# Altium footprint library HCPL-316J.PcbLib: 1 footprints
Each footprint in its own frame and in the unit in brackets; x right, y up, seen from the top. Pads: shape width x height; smd on the part's side, far side on the other; paste and mask are expansions set on the pad; w line width, h text height; cw(c..) or ccw(c..) is an arc to the next point about the centre after c.
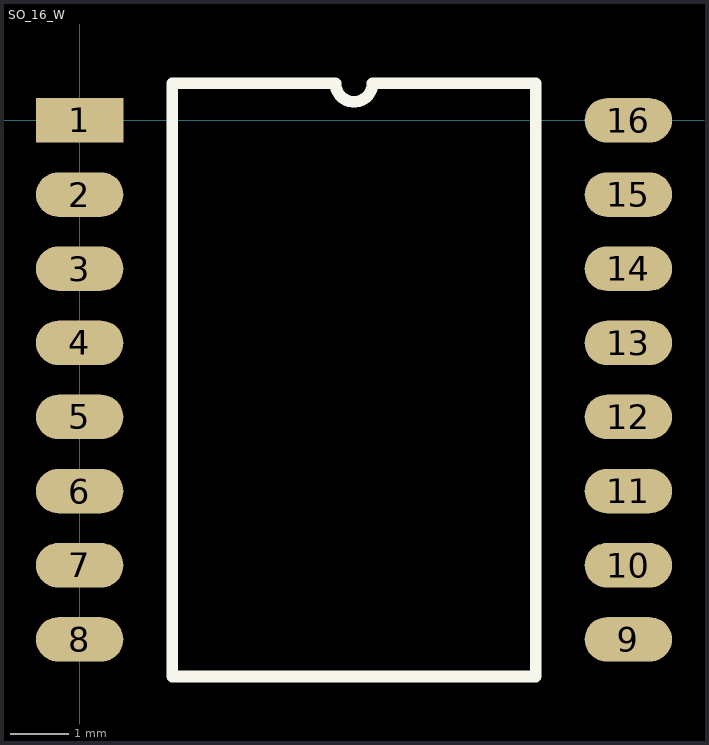
[diagram p0: the footprint, top view; thin cyan lines are the x and y axes]

## SO_16_W [mm]
pads (16):
  rect 1.5x0.762 smd: 1(0,0)
  oval 1.5x0.762 smd: 2(0,-1.27) 3(0,-2.54) 4(0,-3.81) 5(0,-5.08) 6(0,-6.35) 7(0,-7.62) 8(0,-8.89) 9(9.4,-8.89) 10(9.4,-7.62) 11(9.4,-6.35) 12(9.4,-5.08) 13(9.4,-3.81) 14(9.4,-2.54) 15(9.4,-1.27) 16(9.4,0)
Top Overlay:
  lines w0.2: 1.585,-9.525 1.585,0.635 4.382,0.635 ccw(c4.7,0.635) 5.017,0.635 7.815,0.635 7.815,-9.525 1.585,-9.525
3D body "SO-16_300Mil_WB_XY.STEP": height 2.5, standoff 0, extent -0.46,-9.595 9.84,0.705